# Altium schematic symbol library ACS758LCB-050B-PFF-T.Schlib: 1 symbol
Pins are listed as number, name and electrical type; pins without a type are passive.

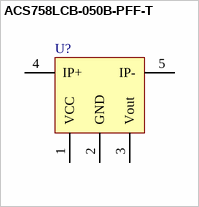
[diagram p0: symbol ACS758LCB-050B-PFF-T]

## ACS758LCB-050B-PFF-T
designator U?
50 Amps Hall Effect Linear Current Sensor
pins: 1 VCC, 2 GND, 3 Vout, 4 IP+ "Terminals for current being sensed; fused internally", 5 IP-